# Altium integrated library USB_m.IntLib: 1 symbol
Pins are listed as number, name and electrical type; pins without a type are passive.

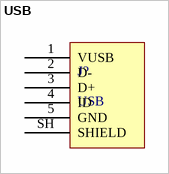
[diagram p0: symbol USB]

## USB
designator J?
footprint USB
pins: 1 VUSB, 2 D-, 3 D+, 4 ID, 5 GND, SH SHIELD